# EAGLE library part STM32WB55CEU6 (library STM32WB55CEU6)
Check availability <https://pricing.snapeda.com/parts/STM32WB55CEU6/STMicroelectronics/view-part?ref=eda>
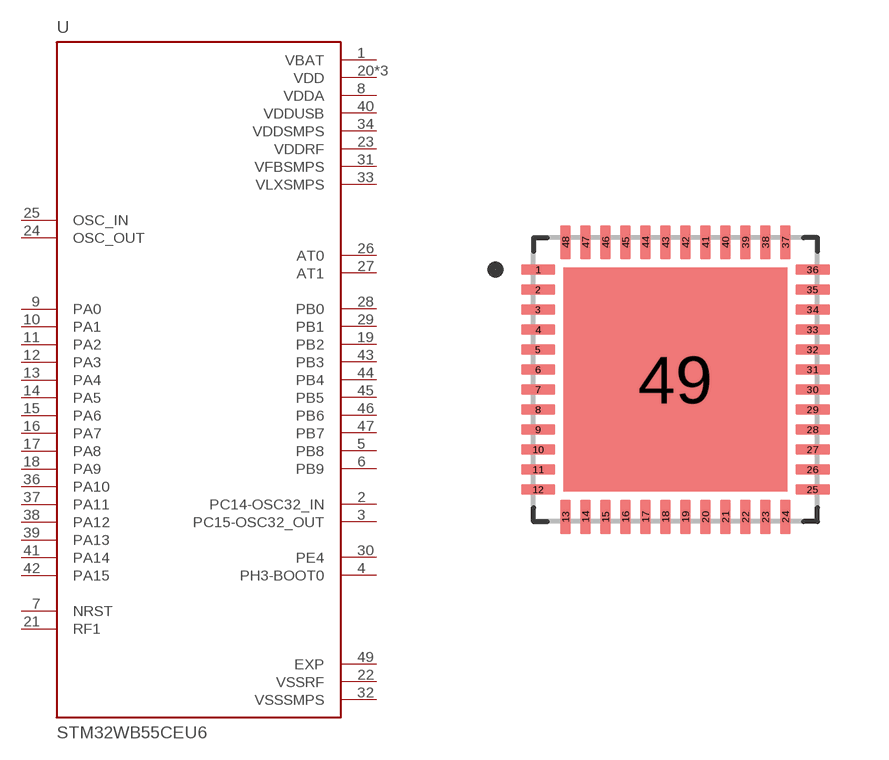
[diagram p0: symbol with the pads of QFN50P700X700X60-49N; footprint QFN50P700X700X60-49N]

Designator prefix U

## STM32WB55CEU6 (Availability: In Stock; Check_prices: https://www.snapeda.com/parts/STM32WB55CEU6/STMicroelectronics/view-part/?ref=eda; Description: IC RF TxRx + MCU 802.15.4, Bluetooth Bluetooth v5.3, Thread, Zigbee® 2.405GHz ~ 2.48GHz 48-UFQFN Exposed Pad; MF: STMicroelectronics; MP: STM32WB55CEU6; Package: UFQFN-48 STMicroelectronics; Price: None; SnapEDA_Link: https://www.snapeda.com/parts/STM32WB55CEU6/STMicroelectronics/view-part/?ref=snap)  [QFN50P700X700X60-49N]
1  VBAT  pwr
2  PC14-OSC32_IN
3  PC15-OSC32_OUT
4  PH3-BOOT0
5  PB8
6  PB9
7  NRST
8  VDDA  pwr
9  PA0
10  PA1
11  PA2
12  PA3
13  PA4
14  PA5
15  PA6
16  PA7
17  PA8
18  PA9
19  PB2
20  VDD  pwr
21  RF1
22  VSSRF  pwr
23  VDDRF  pwr
24  OSC_OUT  out
25  OSC_IN  in
26  AT0  out
27  AT1  out
28  PB0
29  PB1
30  PE4
31  VFBSMPS  pwr
32  VSSSMPS  pwr
33  VLXSMPS  pwr
34  VDDSMPS  pwr
35  VDD  pwr
36  PA10
37  PA11
38  PA12
39  PA13
40  VDDUSB  pwr
41  PA14
42  PA15
43  PB3
44  PB4
45  PB5
46  PB6
47  PB7
48  VDD  pwr
49  EXP  pwr

## Footprint QFN50P700X700X60-49N (pad centres in mm)
smd 0.86 x 0.27: 1 -3.435,2.75; 2 -3.435,2.25; 3 -3.435,1.75; 4 -3.435,1.25; 5 -3.435,0.75; 6 -3.435,0.25; 7 -3.435,-0.25; 8 -3.435,-0.75; 9 -3.435,-1.25; 10 -3.435,-1.75; 11 -3.435,-2.25; 12 -3.435,-2.75; 25 3.435,-2.75; 26 3.435,-2.25; 27 3.435,-1.75; 28 3.435,-1.25; 29 3.435,-0.75; 30 3.435,-0.25; 31 3.435,0.25; 32 3.435,0.75; 33 3.435,1.25; 34 3.435,1.75; 35 3.435,2.25; 36 3.435,2.75
smd 0.27 x 0.86: 13 -2.75,-3.435; 14 -2.25,-3.435; 15 -1.75,-3.435; 16 -1.25,-3.435; 17 -0.75,-3.435; 18 -0.25,-3.435; 19 0.25,-3.435; 20 0.75,-3.435; 21 1.25,-3.435; 22 1.75,-3.435; 23 2.25,-3.435; 24 2.75,-3.435; 37 2.75,3.435; 38 2.25,3.435; 39 1.75,3.435; 40 1.25,3.435; 41 0.75,3.435; 42 0.25,3.435; 43 -0.25,3.435; 44 -0.75,3.435; 45 -1.25,3.435; 46 -1.75,3.435; 47 -2.25,3.435; 48 -2.75,3.435
smd 5.6 x 5.6: 49 0,0